# Altium schematic symbol library B41856C7477M000.SchLib: 1 symbol
Pins are listed as number, name and electrical type; pins without a type are passive.

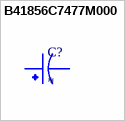
[diagram p0: symbol B41856C7477M000]

## B41856C7477M000
designator C?
MF: {'manufacturer': u'EPCOS'}; MP: B41856C7477M000; Package: None; Price: None; Value: *; Availability: Unavailable
footprint CAPPRD500W60D1000H2200
pins: 1, 2